# EAGLE library part ACS714LLCTR-50A (library KylePile)
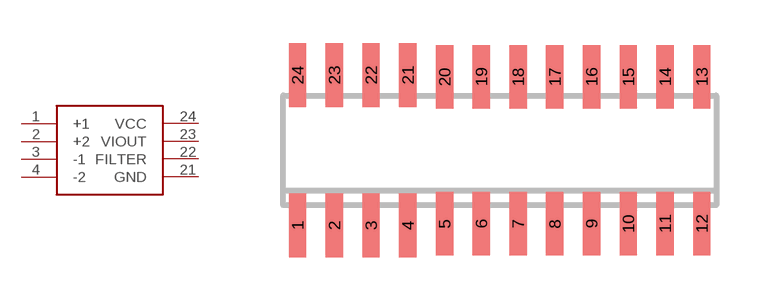
[diagram p12: symbol with the pads of SOIC-24; footprint SOIC-24]

Designator prefix -

## ACS714LLCTR-50A  [SOIC-24]
1  +1
2  +2
3  -1
4  -2
21  GND
22  FILTER
23  VIOUT
24  VCC

## Footprint SOIC-24 (pad centres in mm)
smd 0.6 x 2.2: 1 -1.905,-2.6; 2 -0.635,-2.6; 3 0.635,-2.6; 4 1.905,-2.6; 5 3.175,-2.54; 6 4.445,-2.54; 7 5.715,-2.54; 8 6.985,-2.54; 9 8.255,-2.54; 10 9.525,-2.54; 11 10.795,-2.54; 12 12.065,-2.54; 13 12.065,2.54; 14 10.795,2.54; 15 9.525,2.54; 16 8.255,2.54; 17 6.985,2.54; 18 5.715,2.54; 19 4.445,2.54; 20 3.175,2.54; 21 1.905,2.6; 22 0.635,2.6; 23 -0.635,2.6; 24 -1.905,2.6